# Altium schematic symbol library connectors_socets.schlib: 183 symbols (part 1 of 2)
Pins are listed as number, name and electrical type; pins without a type are passive.

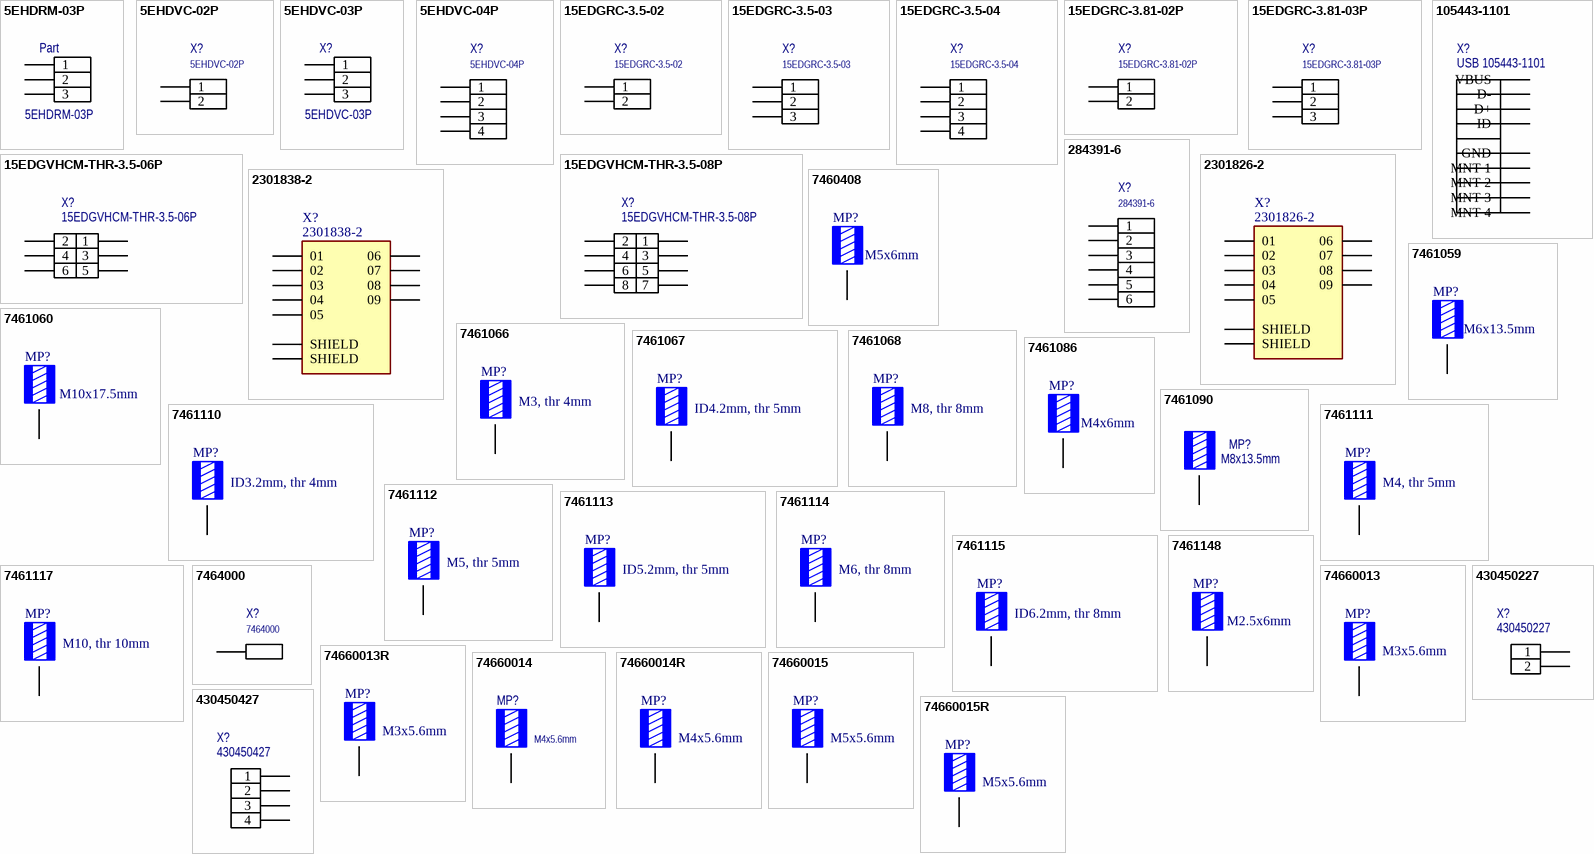
[diagram p0: symbols 5EHDRM-03P to 430450427]

## 5EHDRM-03P
designator Part
Connector 3pin 5.0 mm pitch
footprint 5EHDRM-03P (Connector 3Pin 5.00mm Pitch)
pins: 1, 2, 3

## 5EHDVC-02P
designator X?
Connector 2Pin 3.5; Part: 5EHDVC-02P
footprint 5EHDVC-02P (5mm 2 pins)
pins: 1, 2

## 5EHDVC-03P
designator X?
Connector 3pin 5.0 mm; Part: 5EHDVC-03P
footprint 5EHDVC-03P (5mm 3 pins)
pins: 1, 2, 3

## 5EHDVC-04P
designator X?
Connector 4Pin 3.5; Part: 5EHDVC-04P
footprint 5EHDVC-04P (5mm 4 pins)
pins: 1, 2, 3, 4

## 15EDGRC-3.5-02
designator X?
Connector 2Pin 3.5 pitch
footprint 15EDGRC-3.5-02 (Connector 3.5mm pitch)
footprint 2SMD_PAD
pins: 1, 2

## 15EDGRC-3.5-03
designator X?
Connector 3Pin 3.5 pitch
footprint 15EDGRC-3.5-03 (Connector 3.5mm pitch)
pins: 1, 2, 3

## 15EDGRC-3.5-04
designator X?
Connector 4Pin 3.5 pitch
footprint 15EDGRC-3.5-04 (Connector 3.5mm pitch)
pins: 1, 2, 3, 4

## 15EDGRC-3.81-02P
designator X?
Connector 2Pin 3.81 pitch; Part: 15EDGRC-3.81-02P
footprint 15EDGRC-3.81-02P
pins: 1, 2

## 15EDGRC-3.81-03P
designator X?
Connector 3Pin 3.81 pitch; Part: 15EDGRC-3.81-03P
footprint 15EDGRC-3.81-03P
pins: 1, 2, 3

## 15EDGVHCM-THR-3.5-06P
designator X?
Alternative Part: JL15EDGRHC-35005B02 / 15EDGRHC-THR-3.5-10P; Part: 15EDGVHCM-THR-3.5-06P; JLCPCB Part: C2908411
footprint 15EDGVHCM-THR-3.5-06P (Connector LR)
pins: 1, 2, 3, 4, 5, 6

## 15EDGVHCM-THR-3.5-08P
designator X?
Alternative Part: JL15EDGRHC-35005B02 / 15EDGRHC-THR-3.5-10P; Part: 15EDGVHCM-THR-3.5-08P; JLCPCB Part: C2908411
footprint 15EDGVHCM-THR-3.5-08P (Connector LR)
pins: 1, 2, 3, 4, 5, 6, 7, 8

## 105443-1101
designator X?, comment USB 105443-1101
USBB_micro
footprint USB micro BMolex_105443-1101 (105443-1101)
pins: 1 VBUS, 2 D-, 3 D+, 4 ID, 5 GND, 6 MNT 1, 7 MNT 2, 8 MNT 3, 9 MNT 4

## 284391-6
designator X?
Connector 6Pin 3.5 pitch
footprint 284391-6 (Connector 3.5mm pitch)
pins: 1, 2, 3, 4, 5, 6

## 2301826-2
designator X?
( DB9 ) 9 Position D-Sub Plug, Male Pins Connector, COM, TE Connectivity; Part: 2301826-2
footprint 2301826-2
pins: 01, 02, 03, 04, 05, 06, 07, 08, 09, S1 SHIELD, S2 SHIELD

## 2301838-2
designator X?
( DB9 ) 9 Position D-Sub Plug, Female Pins Connector, COM, TE Connectivity; Part: 2301838-2
footprint 2301838-2
pins: 01, 02, 03, 04, 05, 06, 07, 08, 09, S1 SHIELD, S2 SHIELD

## 7460408
designator MP?, comment M5x6mm
WP-BUCF Press-Fit with Internal thread, 9x9mm, 12 pins, M5x6mm, 175A; Part: 7460408; Pin Number: 12; Thread Length: 6mm; Thread: M5; Surface: Tin; ComponentLink1Description: Manufacturer; ComponentLink1URL: http://www.we-online.de; ComponentLink2Description: Datasheet; ComponentLink2URL: https://katalog.we-online.com/em/datasheet/7460408.pdf; Operating Temperature: -55 to +150degC; Height: 6mm; Material: Brass; Packaging: Bulk; Mounting Technology: Press-Fit; Rated Current: 175A; Publisher: Wurth Elektronik; Published Date: September 2019; Size: 9x9mm
footprint 7460408_for HAL
footprint 7460408_for chemical surfaces
pins: 1

## 7461059
designator MP?, comment M6x13.5mm
WP-BUCF Press-Fit with Internal thread, 13x13mm, 16 pins, M6x13.5mm, 240A; Part: 7461059; Pin Number: 16; Thread Length: 13.5mm; Thread: M6; Surface: Tin; ComponentLink1Description: Manufacturer; ComponentLink1URL: http://www.we-online.de; ComponentLink2Description: Datasheet; ComponentLink2URL: https://katalog.we-online.com/em/datasheet/7461059.pdf; Operating Temperature: -55 to +150degC; Height: 13.5mm; Material: Brass; Packaging: Bulk; Mounting Technology: Press-Fit; Rated Current: 240A; Publisher: Wurth Elektronik; Published Date: September 2019; Size: 13x13mm
footprint 7461059_for HAL
footprint 7461059_for chemical surfaces
pins: 1

## 7461060
designator MP?, comment M10x17.5mm
WP-BUCF Press-Fit with Internal thread, 16x16mm, 20 pins, M10x17.5mm, 350A; Part: 7461060; Pin Number: 20; Thread Length: 17.5mm; Thread: M10; Surface: Tin; ComponentLink1Description: Manufacturer; ComponentLink1URL: http://www.we-online.de; ComponentLink2Description: Datasheet; ComponentLink2URL: https://katalog.we-online.com/em/datasheet/7461060.pdf; Operating Temperature: -55 to +150degC; Height: 17.5mm; Material: Brass; Packaging: Bulk; Mounting Technology: Press-Fit; Rated Current: 350A; Publisher: Wurth Elektronik; Published Date: September 2019; Size: 16x16mm
footprint 7461060_for HAL
footprint 7461060_for chemical surfaces
pins: 1

## 7461066
designator MP?, comment M3, thr 4mm
WP-RAFU REDCUBE PRESS-FIT right angled, full plain, 7x7mm, height 14mm, M3, thr 4mm, 130A; Manufacturer: Wurth Elektronik; Manufacturer Part Number: 7461066; Pin Number: 9; Surface: Tin; ComponentLink1Description: Manufacturer; ComponentLink1URL: http://www.we-online.de; ComponentLink2Description: Datasheet; ComponentLink2URL: https://www.we-online.com/catalog/datasheet/7461066.pdf; Mounting Technology: Press-Fit; Packaging: Bulk; Operating Temperature: -55 to +150degC; Material: Brass; Size: 7x7mm; Rated Current: 130A; Published Date: June 2021; Thread / Inner Diameter: M3, thr 4mm; Height: 14mm
footprint 7461066_HAL
footprint 7461066_chemical surface
pins: 1

## 7461067
designator MP?, comment ID4.2mm, thr 5mm
WP-RAFU REDCUBE PRESS-FIT right angled, full plain, 9x9mm, height 14mm, ID4.2mm, thr 5mm, 180A; Manufacturer: Wurth Elektronik; Manufacturer Part Number: 7461067; Pin Number: 16; Surface: Tin; ComponentLink1Description: Manufacturer; ComponentLink1URL: http://www.we-online.de; ComponentLink2Description: Datasheet; ComponentLink2URL: https://www.we-online.com/catalog/datasheet/7461067.pdf; Mounting Technology: Press-Fit; Packaging: Bulk; Operating Temperature: -55 to +150degC; Material: Brass; Size: 9x9mm; Rated Current: 180A; Published Date: June 2021; Thread / Inner Diameter: ID4.2mm, thr 5mm; Height: 14mm
footprint 7461067_HAL
footprint 7461067_chemical surface
pins: 1

## 7461068
designator MP?, comment M8, thr 8mm
WP-RAFU REDCUBE PRESS-FIT right angled, full plain, 13x13mm, height 20mm, M8, thr 8mm, 250A; Manufacturer: Wurth Elektronik; Manufacturer Part Number: 7461068; Pin Number: 25; Surface: Tin; ComponentLink1Description: Manufacturer; ComponentLink1URL: http://www.we-online.de; ComponentLink2Description: Datasheet; ComponentLink2URL: https://www.we-online.com/catalog/datasheet/7461068.pdf; Mounting Technology: Press-Fit; Packaging: Bulk; Operating Temperature: -55 to +150degC; Material: Brass; Size: 13x13mm; Rated Current: 250A; Published Date: June 2021; Thread / Inner Diameter: M8, thr 8mm; Height: 20mm
footprint 7461068_HAL
footprint 7461068_chemical surface
pins: 1

## 7461086
designator MP?, comment M4x6mm
WP-BUCF Press-Fit with Internal thread, 9x9mm, 12 pins, M4x6mm, 175A; Part: 7461086; Pin Number: 12; Thread Length: 6mm; Thread: M4; Surface: Tin; ComponentLink1Description: Manufacturer; ComponentLink1URL: http://www.we-online.de; ComponentLink2Description: Datasheet; ComponentLink2URL: https://katalog.we-online.com/em/datasheet/7461086.pdf; Operating Temperature: -55 to +150degC; Height: 6mm; Material: Brass; Packaging: Bulk; Mounting Technology: Press-Fit; Rated Current: 175A; Publisher: Wurth Elektronik; Published Date: September 2019; Size: 9x9mm
footprint 7461086_for HAL
footprint 7461086_for chemical surfaces
pins: 1

## 7461090
designator MP?, comment M8x13.5mm
WP-BUCF Press-Fit with Internal thread, 16x16mm, 20 pins, M8x13.5mm, 350A; Part: 7461090; Pin Number: 20; Thread Length: 13.5mm; Thread: M8; Surface: Tin; ComponentLink1Description: Manufacturer; ComponentLink1URL: http://www.we-online.de; ComponentLink2Description: Datasheet; ComponentLink2URL: https://katalog.we-online.com/em/datasheet/7461090.pdf; Operating Temperature: -55 to +150degC; Height: 13.5mm; Material: Brass; Packaging: Bulk; Mounting Technology: Press-Fit; Rated Current: 350A; Publisher: Wurth Elektronik; Published Date: September 2019; Size: 16x16mm
footprint 7461090_for HAL
footprint 7461090_for chemical surfaces
pins: 1

## 7461110
designator MP?, comment ID3.2mm, thr 4mm
WP-RAFU REDCUBE PRESS-FIT right angled, full plain, 7x7mm, height 14mm, ID3.2mm, thr 4mm, 130A; Manufacturer: Wurth Elektronik; Manufacturer Part Number: 7461110; Pin Number: 9; Surface: Tin; ComponentLink1Description: Manufacturer; ComponentLink1URL: http://www.we-online.de; ComponentLink2Description: Datasheet; ComponentLink2URL: https://www.we-online.com/catalog/datasheet/7461110.pdf; Mounting Technology: Press-Fit; Packaging: Bulk; Operating Temperature: -55 to +150degC; Material: Brass; Size: 7x7mm; Rated Current: 130A; Published Date: June 2021; Thread / Inner Diameter: ID3.2mm, thr 4mm; Height: 14mm
footprint 7461110_HAL
footprint 7461110_chemical surface
pins: 1

## 7461111
designator MP?, comment M4, thr 5mm
WP-RAFU REDCUBE PRESS-FIT right angled, full plain, 9x9mm, height 14mm, M4, thr 5mm, 180A; Manufacturer: Wurth Elektronik; Manufacturer Part Number: 7461111; Pin Number: 16; Surface: Tin; ComponentLink1Description: Manufacturer; ComponentLink1URL: http://www.we-online.de; ComponentLink2Description: Datasheet; ComponentLink2URL: https://www.we-online.com/catalog/datasheet/7461111.pdf; Mounting Technology: Press-Fit; Packaging: Bulk; Operating Temperature: -55 to +150degC; Material: Brass; Size: 9x9mm; Rated Current: 180A; Published Date: June 2021; Thread / Inner Diameter: M4, thr 5mm; Height: 14mm
footprint 7461111_HAL
footprint 7461111_chemical surface
pins: 1

## 7461112
designator MP?, comment M5, thr 5mm
WP-RAFU REDCUBE PRESS-FIT right angled, full plain, 9x9mm, height 14mm, M5, thr 5mm, 180A; Manufacturer: Wurth Elektronik; Manufacturer Part Number: 7461112; Pin Number: 16; Surface: Tin; ComponentLink1Description: Manufacturer; ComponentLink1URL: http://www.we-online.de; ComponentLink2Description: Datasheet; ComponentLink2URL: https://www.we-online.com/catalog/datasheet/7461112.pdf; Mounting Technology: Press-Fit; Packaging: Bulk; Operating Temperature: -55 to +150degC; Material: Brass; Size: 9x9mm; Rated Current: 180A; Published Date: June 2021; Thread / Inner Diameter: M5, thr 5mm; Height: 14mm
footprint 7461112_HAL
footprint 7461112_chemical surface
pins: 1

## 7461113
designator MP?, comment ID5.2mm, thr 5mm
WP-RAFU REDCUBE PRESS-FIT right angled, full plain, 9x9mm, height 14mm, ID5.2mm, thr 5mm, 180A; Manufacturer: Wurth Elektronik; Manufacturer Part Number: 7461113; Pin Number: 16; Surface: Tin; ComponentLink1Description: Manufacturer; ComponentLink1URL: http://www.we-online.de; ComponentLink2Description: Datasheet; ComponentLink2URL: https://www.we-online.com/catalog/datasheet/7461113.pdf; Mounting Technology: Press-Fit; Packaging: Bulk; Operating Temperature: -55 to +150degC; Material: Brass; Size: 9x9mm; Rated Current: 180A; Published Date: June 2021; Thread / Inner Diameter: ID5.2mm, thr 5mm; Height: 14mm
footprint 7461113_HAL
footprint 7461113_chemical surface
pins: 1

## 7461114
designator MP?, comment M6, thr 8mm
WP-RAFU REDCUBE PRESS-FIT right angled, full plain, 13x13mm, height 20mm, M6, thr 8mm, 250A; Manufacturer: Wurth Elektronik; Manufacturer Part Number: 7461114; Pin Number: 25; Surface: Tin; ComponentLink1Description: Manufacturer; ComponentLink1URL: http://www.we-online.de; ComponentLink2Description: Datasheet; ComponentLink2URL: https://www.we-online.com/catalog/datasheet/7461114.pdf; Mounting Technology: Press-Fit; Packaging: Bulk; Operating Temperature: -55 to +150degC; Material: Brass; Size: 13x13mm; Rated Current: 250A; Published Date: June 2021; Thread / Inner Diameter: M6, thr 8mm; Height: 20mm
footprint 7461114_HAL
footprint 7461114_chemical surface
pins: 1

## 7461115
designator MP?, comment ID6.2mm, thr 8mm
WP-RAFU REDCUBE PRESS-FIT right angled, full plain, 13x13mm, height 20mm, ID6.2mm, thr 8mm, 250A; Manufacturer: Wurth Elektronik; Manufacturer Part Number: 7461115; Pin Number: 25; Surface: Tin; ComponentLink1Description: Manufacturer; ComponentLink1URL: http://www.we-online.de; ComponentLink2Description: Datasheet; ComponentLink2URL: https://www.we-online.com/catalog/datasheet/7461115.pdf; Mounting Technology: Press-Fit; Packaging: Bulk; Operating Temperature: -55 to +150degC; Material: Brass; Size: 13x13mm; Rated Current: 250A; Published Date: June 2021; Thread / Inner Diameter: ID6.2mm, thr 8mm; Height: 20mm
footprint 7461115_HAL
footprint 7461115_chemical surface
pins: 1

## 7461117
designator MP?, comment M10, thr 10mm
WP-RAFU REDCUBE PRESS-FIT right angled, full plain, 16x16mm, height 25mm, M10, thr 10mm, 350A; Manufacturer: Wurth Elektronik; Manufacturer Part Number: 7461117; Pin Number: 36; Surface: Tin; ComponentLink1Description: Manufacturer; ComponentLink1URL: http://www.we-online.de; ComponentLink2Description: Datasheet; ComponentLink2URL: https://www.we-online.com/catalog/datasheet/7461117.pdf; Mounting Technology: Press-Fit; Packaging: Bulk; Operating Temperature: -55 to +150degC; Material: Brass; Size: 16x16mm; Rated Current: 350A; Published Date: June 2021; Thread / Inner Diameter: M10, thr 10mm; Height: 25mm
footprint 7461117_HAL
footprint 7461117_chemical surface
pins: 1

## 7461148
designator MP?, comment M2.5x6mm
WP-BUCF Press-Fit with Internal thread, 7x7mm, 8 pins, M2.5x6mm, 130A; Part: 7461148; Pin Number: 8; Thread Length: 6mm; Thread: M2.5; Surface: Tin; ComponentLink1Description: Manufacturer; ComponentLink1URL: http://www.we-online.de; ComponentLink2Description: Datasheet; ComponentLink2URL: https://katalog.we-online.com/em/datasheet/7461148.pdf; Operating Temperature: -55 to +150degC; Height: 6mm; Material: Brass; Packaging: Bulk; Mounting Technology: Press-Fit; Rated Current: 130A; Publisher: Wurth Elektronik; Published Date: September 2019; Size: 7x7mm
footprint 7461148_for HAL
footprint 7461148_for chemical surfaces
pins: 1

## 7464000
designator X?
Connector 1Pin
footprint 7464000
pins: 1

## 74660013
designator MP?, comment M3x5.6mm
WP-SMRT REDCUBE SMT Reverse with internal thread, OD10mm, M3x5.6mm, 85A; Part: 74660013; Outer Diameter: 10mm; Surface: Tin; Inner Thread: M3; ComponentLink1Description: Manufacturer; ComponentLink1URL: http://www.we-online.de; ComponentLink2Description: Datasheet; ComponentLink2URL: https://katalog.we-online.com/em/datasheet/74660013.pdf; Mounting Technology: SMT; Height: 5.6mm; Inner Diameter: -; Operating Temperature: -55 to +150degC; Material: Brass; Publisher: Wurth Elektronik; Published Date: November 2019; Packaging: Bulk; Size: M3x5.6mm; Rated Current: 85A
footprint 74660013
pins: 1

## 74660013R
designator MP?, comment M3x5.6mm
WP-SMRT REDCUBE SMT Reverse with internal thread, OD10mm, M3x5.6mm, 85A; Part: 74660013R; Outer Diameter: 10mm; Surface: Tin; Inner Thread: M3; ComponentLink1Description: Manufacturer; ComponentLink1URL: http://www.we-online.de; ComponentLink2Description: Datasheet; ComponentLink2URL: https://katalog.we-online.com/em/datasheet/74660013R.pdf; Mounting Technology: SMT; Height: 5.6mm; Inner Diameter: -; Operating Temperature: -55 to +150degC; Material: Brass; Publisher: Wurth Elektronik; Published Date: November 2019; Packaging: Tape and Reel; Size: M3x5.6mm; Rated Current: 85A
footprint 74660013
pins: 1

## 74660014
designator MP?, comment M4x5.6mm
WP-SMRT REDCUBE SMT Reverse with internal thread, OD10mm, M4x5.6mm, 85A; Part: 74660014; Outer Diameter: 10mm; Surface: Tin; Inner Thread: M4; ComponentLink1Description: Manufacturer; ComponentLink1URL: http://www.we-online.de; ComponentLink2Description: Datasheet; ComponentLink2URL: https://katalog.we-online.com/em/datasheet/74660014.pdf; Mounting Technology: SMT; Height: 5.6mm; Inner Diameter: -; Operating Temperature: -55 to +150degC; Material: Brass; Publisher: Wurth Elektronik; Published Date: November 2019; Packaging: Bulk; Size: M4x5.6mm; Rated Current: 85A
footprint 74660014 (Bush SMD open)
pins: 1

## 74660014R
designator MP?, comment M4x5.6mm
WP-SMRT REDCUBE SMT Reverse with internal thread, OD10mm, M4x5.6mm, 85A; Part: 74660014R; Outer Diameter: 10mm; Surface: Tin; Inner Thread: M4; ComponentLink1Description: Manufacturer; ComponentLink1URL: http://www.we-online.de; ComponentLink2Description: Datasheet; ComponentLink2URL: https://katalog.we-online.com/em/datasheet/74660014R.pdf; Mounting Technology: SMT; Height: 5.6mm; Inner Diameter: -; Operating Temperature: -55 to +150degC; Material: Brass; Publisher: Wurth Elektronik; Published Date: November 2019; Packaging: Tape and Reel; Size: M4x5.6mm; Rated Current: 85A
footprint 74660014
pins: 1

## 74660015
designator MP?, comment M5x5.6mm
WP-SMRT REDCUBE SMT Reverse with internal thread, OD10mm, M5x5.6mm, 85A; Part: 74660015; Outer Diameter: 10mm; Surface: Tin; Inner Thread: M5; ComponentLink1Description: Manufacturer; ComponentLink1URL: http://www.we-online.de; ComponentLink2Description: Datasheet; ComponentLink2URL: https://katalog.we-online.com/em/datasheet/74660015.pdf; Mounting Technology: SMT; Height: 5.6mm; Inner Diameter: -; Operating Temperature: -55 to +150degC; Material: Brass; Publisher: Wurth Elektronik; Published Date: November 2019; Packaging: Bulk; Size: M5x5.6mm; Rated Current: 85A
footprint 74660015
pins: 1

## 74660015R
designator MP?, comment M5x5.6mm
WP-SMRT REDCUBE SMT Reverse with internal thread, OD10mm, M5x5.6mm, 85A; Part: 74660015R; Outer Diameter: 10mm; Surface: Tin; Inner Thread: M5; ComponentLink1Description: Manufacturer; ComponentLink1URL: http://www.we-online.de; ComponentLink2Description: Datasheet; ComponentLink2URL: https://katalog.we-online.com/em/datasheet/74660015R.pdf; Mounting Technology: SMT; Height: 5.6mm; Inner Diameter: -; Operating Temperature: -55 to +150degC; Material: Brass; Publisher: Wurth Elektronik; Published Date: November 2019; Packaging: Tape and Reel; Size: M5x5.6mm; Rated Current: 85A
footprint 74660015
pins: 1

## 430450227
designator X?
Molex MicroFit
footprint 430450227
pins: 1, 2

## 430450427
designator X?
Molex MicroFit
footprint 430450427
pins: 1, 2, 3, 4

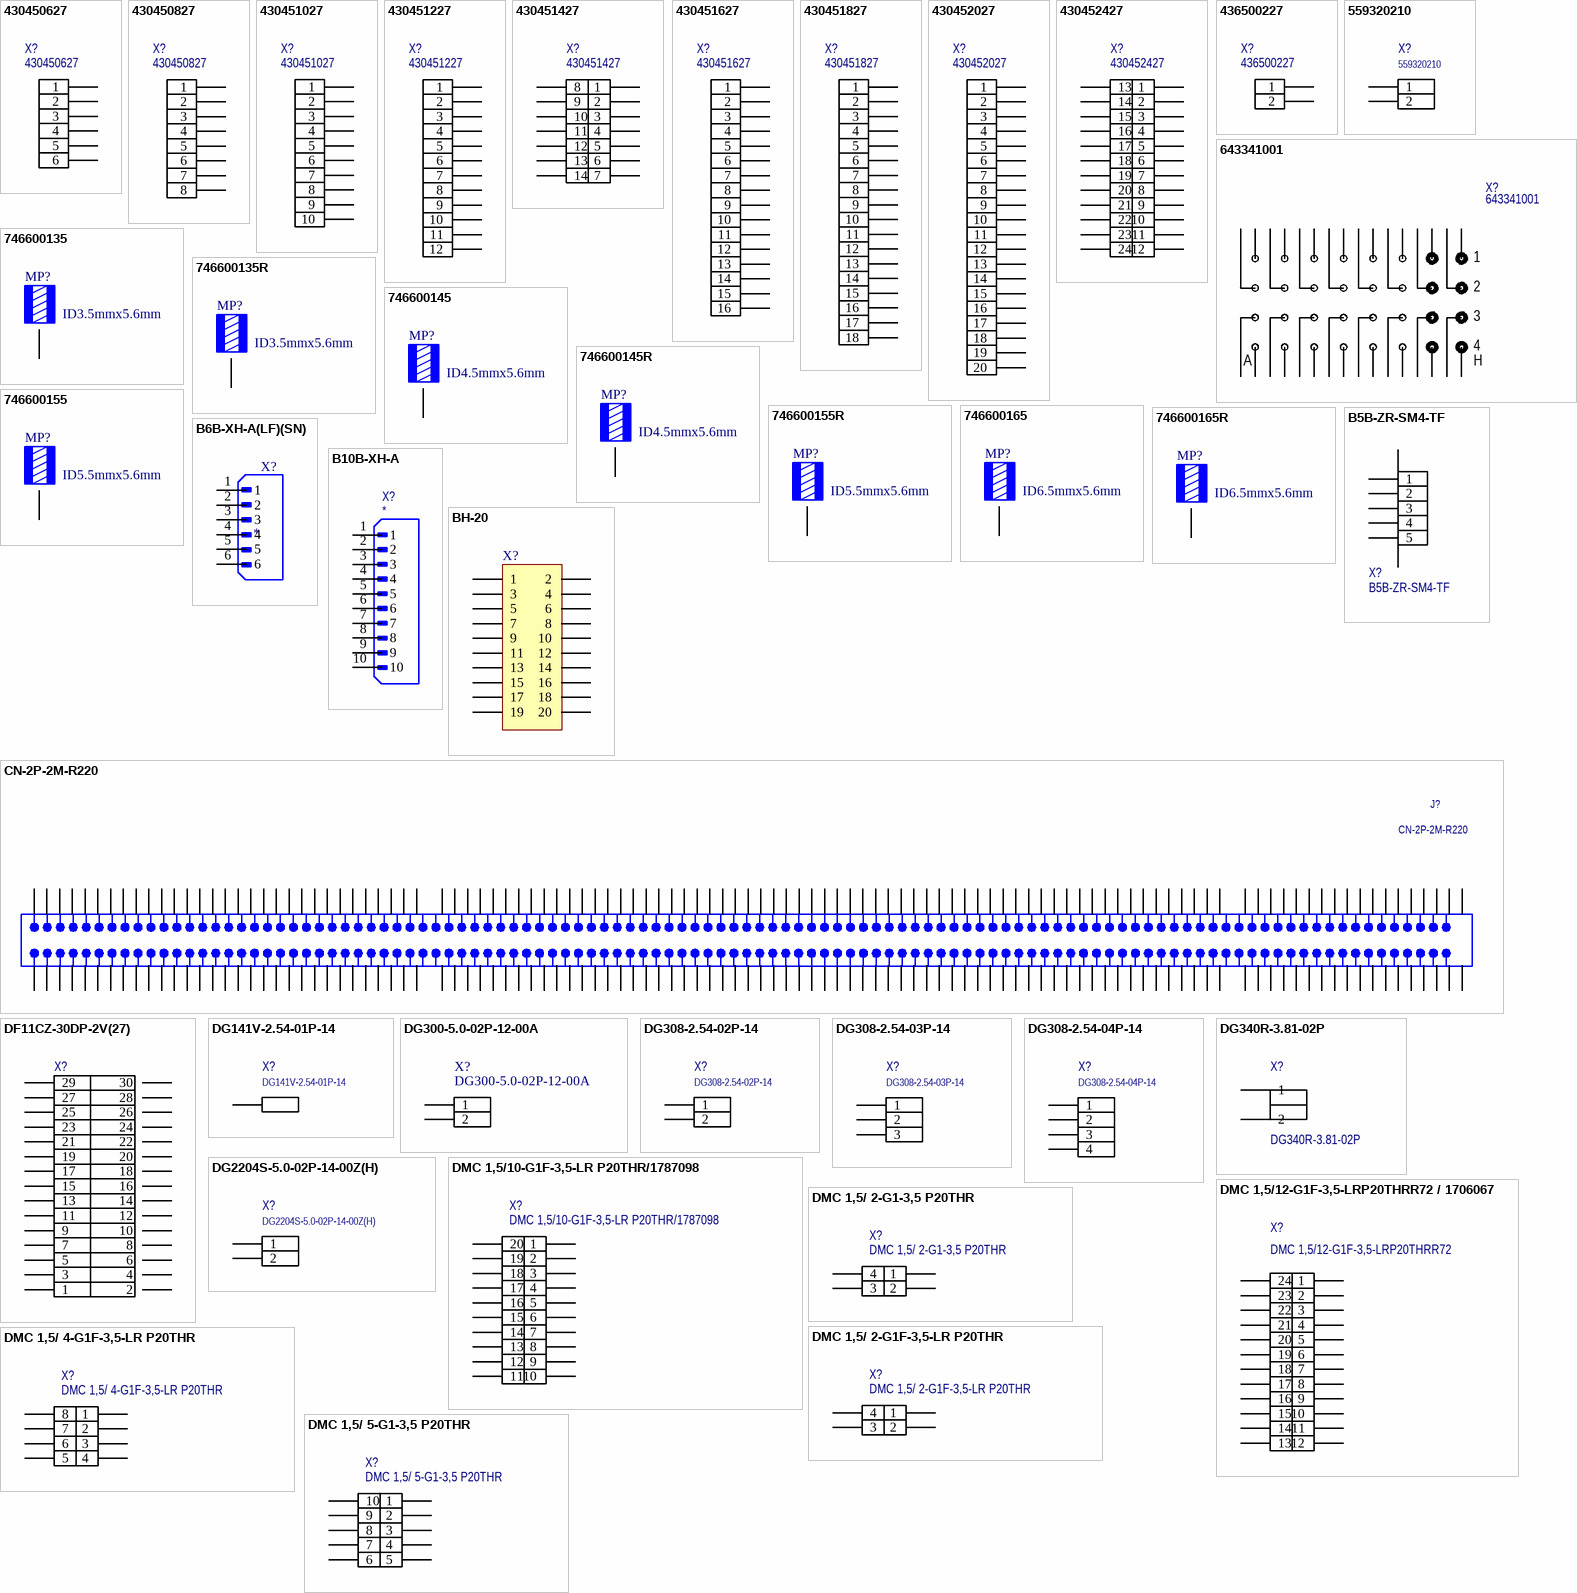
[diagram p1: symbols 430450627 to DMC 1,5/ 5-G1-3,5 P20THR]

## 430450627
designator X?
Molex MicroFit
footprint 430450627
pins: 1, 2, 3, 4, 5, 6

## 430450827
designator X?
Molex MicroFit
footprint 430450827
pins: 1, 2, 3, 4, 5, 6, 7, 8

## 430451027
designator X?
Molex MicroFit
footprint 430451027
pins: 1, 2, 3, 4, 5, 6, 7, 8, 9, 10

## 430451227
designator X?
Molex MicroFit
footprint 430451227
pins: 1, 2, 3, 4, 5, 6, 7, 8, 9, 10, 11, 12

## 430451427
designator X?
Molex MicroFit
footprint 430451427
pins: 1, 2, 3, 4, 5, 6, 7, 8, 9, 10, 11, 12, 13, 14

## 430451627
designator X?
Molex MicroFit
footprint 430451627
pins: 1, 2, 3, 4, 5, 6, 7, 8, 9, 10, 11, 12, 13, 14, 15, 16

## 430451827
designator X?
Molex MicroFit
footprint 430451827
pins: 1, 2, 3, 4, 5, 6, 7, 8, 9, 10, 11, 12, 13, 14, 15, 16, 17, 18

## 430452027
designator X?
Molex MicroFit
footprint 430452027
pins: 1, 2, 3, 4, 5, 6, 7, 8, 9, 10, 11, 12, 13, 14, 15, 16, 17, 18, 19, 20

## 430452427
designator X?
Molex MicroFit
footprint 430452427
pins: 1, 2, 3, 4, 5, 6, 7, 8, 9, 10, 11, 12, 13, 14, 15, 16, 17, 18, 19, 20, 21, 22, 23, 24

## 436500227
designator X?
Molex MicroFit
footprint 436500227
pins: 1, 2

## 559320210
designator X?
Connector 2Pin 2 pitch
footprint 559320210 (2pin molex pcb)
pins: 1, 2

## 643341001
designator X?
molex-cros-wired
footprint 643341001 (Molex connectors)
pins: A1, A2, A3, A4, B1, B2, B3, B4, C1, C2, C3, C4, D1, D2, D3, D4, E1, E2, E3, E4, F1, F2, F3, F4, G1, G2, G3, G4, H1, H2, H3, H4
text: 1; 2; 3; 4; A; H

## 746600135
designator MP?, comment ID3.5mmx5.6mm
WP-SMRT REDCUBE SMT Reverse with internal through-hole, OD10mm, ID3.5mmx5.6mm, 85A; Part: 746600135; Inner Diameter: 3.5mm; Outer Diameter: 10mm; Surface: Tin; ComponentLink1Description: Manufacturer; ComponentLink1URL: http://www.we-online.de; ComponentLink2Description: Datasheet; ComponentLink2URL: https://katalog.we-online.com/em/datasheet/746600135.pdf; Mounting Technology: SMT; Height: 5.6mm; Operating Temperature: -55 to +150degC; Material: Brass; Publisher: Wurth Elektronik; Published Date: November 2019; Packaging: Bulk; Size: ID3.5mmx5.6mm; Rated Current: 85A; Inner Thread: -
footprint 746600135
pins: 1

## 746600135R
designator MP?, comment ID3.5mmx5.6mm
WP-SMRT REDCUBE SMT Reverse with internal through-hole, OD10mm, ID3.5mmx5.6mm, 85A; Part: 746600135R; Inner Diameter: 3.5mm; Outer Diameter: 10mm; Surface: Tin; ComponentLink1Description: Manufacturer; ComponentLink1URL: http://www.we-online.de; ComponentLink2Description: Datasheet; ComponentLink2URL: https://katalog.we-online.com/em/datasheet/746600135R.pdf; Mounting Technology: SMT; Height: 5.6mm; Operating Temperature: -55 to +150degC; Material: Brass; Publisher: Wurth Elektronik; Published Date: November 2019; Packaging: Tape and Reel; Size: ID3.5mmx5.6mm; Rated Current: 85A; Inner Thread: -
footprint 746600135
pins: 1

## 746600145
designator MP?, comment ID4.5mmx5.6mm
WP-SMRT REDCUBE SMT Reverse with internal through-hole, OD10mm, ID4.5mmx5.6mm, 85A; Part: 746600145; Inner Diameter: 4.5mm; Outer Diameter: 10mm; Surface: Tin; ComponentLink1Description: Manufacturer; ComponentLink1URL: http://www.we-online.de; ComponentLink2Description: Datasheet; ComponentLink2URL: https://katalog.we-online.com/em/datasheet/746600145.pdf; Mounting Technology: SMT; Height: 5.6mm; Operating Temperature: -55 to +150degC; Material: Brass; Publisher: Wurth Elektronik; Published Date: November 2019; Packaging: Bulk; Size: ID4.5mmx5.6mm; Rated Current: 85A; Inner Thread: -
footprint 746600145
pins: 1

## 746600145R
designator MP?, comment ID4.5mmx5.6mm
WP-SMRT REDCUBE SMT Reverse with internal through-hole, OD10mm, ID4.5mmx5.6mm, 85A; Part: 746600145R; Inner Diameter: 4.5mm; Outer Diameter: 10mm; Surface: Tin; ComponentLink1Description: Manufacturer; ComponentLink1URL: http://www.we-online.de; ComponentLink2Description: Datasheet; ComponentLink2URL: https://katalog.we-online.com/em/datasheet/746600145R.pdf; Mounting Technology: SMT; Height: 5.6mm; Operating Temperature: -55 to +150degC; Material: Brass; Publisher: Wurth Elektronik; Published Date: November 2019; Packaging: Tape and Reel; Size: ID4.5mmx5.6mm; Rated Current: 85A; Inner Thread: -
footprint 746600145
pins: 1

## 746600155
designator MP?, comment ID5.5mmx5.6mm
WP-SMRT REDCUBE SMT Reverse with internal through-hole, OD10mm, ID5.5mmx5.6mm, 85A; Part: 746600155; Inner Diameter: 5.5mm; Outer Diameter: 10mm; Surface: Tin; ComponentLink1Description: Manufacturer; ComponentLink1URL: http://www.we-online.de; ComponentLink2Description: Datasheet; ComponentLink2URL: https://katalog.we-online.com/em/datasheet/746600155.pdf; Mounting Technology: SMT; Height: 5.6mm; Operating Temperature: -55 to +150degC; Material: Brass; Publisher: Wurth Elektronik; Published Date: November 2019; Packaging: Bulk; Size: ID5.5mmx5.6mm; Rated Current: 85A; Inner Thread: -
footprint 746600155
pins: 1

## 746600155R
designator MP?, comment ID5.5mmx5.6mm
WP-SMRT REDCUBE SMT Reverse with internal through-hole, OD10mm, ID5.5mmx5.6mm, 85A; Part: 746600155R; Inner Diameter: 5.5mm; Outer Diameter: 10mm; Surface: Tin; ComponentLink1Description: Manufacturer; ComponentLink1URL: http://www.we-online.de; ComponentLink2Description: Datasheet; ComponentLink2URL: https://katalog.we-online.com/em/datasheet/746600155R.pdf; Mounting Technology: SMT; Height: 5.6mm; Operating Temperature: -55 to +150degC; Material: Brass; Publisher: Wurth Elektronik; Published Date: November 2019; Packaging: Tape and Reel; Size: ID5.5mmx5.6mm; Rated Current: 85A; Inner Thread: -
footprint 746600155
pins: 1

## 746600165
designator MP?, comment ID6.5mmx5.6mm
WP-SMRT REDCUBE SMT Reverse with internal through-hole, OD12mm, ID6.5mmx5.6mm, 85A; Part: 746600165; Inner Diameter: 6.5mm; Outer Diameter: 12mm; Surface: Tin; ComponentLink1Description: Manufacturer; ComponentLink1URL: http://www.we-online.de; ComponentLink2Description: Datasheet; ComponentLink2URL: https://katalog.we-online.com/em/datasheet/746600165.pdf; Mounting Technology: SMT; Height: 5.6mm; Operating Temperature: -55 to +150degC; Material: Brass; Publisher: Wurth Elektronik; Published Date: November 2019; Packaging: Bulk; Size: ID6.5mmx5.6mm; Rated Current: 85A; Inner Thread: -
footprint 746600165
pins: 1

## 746600165R
designator MP?, comment ID6.5mmx5.6mm
WP-SMRT REDCUBE SMT Reverse with internal through-hole, OD12mm, ID6.5mmx5.6mm, 85A; Part: 746600165R; Inner Diameter: 6.5mm; Outer Diameter: 12mm; Surface: Tin; ComponentLink1Description: Manufacturer; ComponentLink1URL: http://www.we-online.de; ComponentLink2Description: Datasheet; ComponentLink2URL: https://katalog.we-online.com/em/datasheet/746600165R.pdf; Mounting Technology: SMT; Height: 5.6mm; Operating Temperature: -55 to +150degC; Material: Brass; Publisher: Wurth Elektronik; Published Date: November 2019; Packaging: Tape and Reel; Size: ID6.5mmx5.6mm; Rated Current: 85A; Inner Thread: -
footprint 746600165
pins: 1

## B5B-ZR-SM4-TF
designator X?
Connector
footprint B5B-ZR-SM4-TF (Connector)
pins: 1, 2, 3, 4, 5, 6, 7

## B6B-XH-A(LF)(SN)
designator X?
Connector Header Through Hole 6 position 0.098 (2.50mm); Part: B6B-XH-A(LF)(SN); MF: JST Sales; SnapEDA_Link: https://www.snapeda.com/parts/B6B-XH-A(LF)(SN)/JST+Sales+America+Inc./view-part/?ref=snap; Package: None; Value: *; Check_prices: https://www.snapeda.com/parts/B6B-XH-A(LF)(SN)/JST+Sales+America+Inc./view-part/?ref=eda
footprint JST_B6B-XH-A(LF)(SN)
pins: 1, 2, 3, 4, 5, 6

## B10B-XH-A
designator X?
Part: B10B-XH-A; MF: {'manufacturer': u'JST Sales America Inc.'}; Package: None; Price: None; Value: *; Availability: Unavailable
footprint JST_B10B-XH-A
pins: 1, 2, 3, 4, 5, 6, 7, 8, 9, 10

## BH-20
designator X?, comment IDC-20MS(BH-20)  (value not drawn)
Header, 10-Pin, Dual row; LatestRevisionDate: 17-Jul-2002; LatestRevisionNote: Re-released for DXP Platform.; Publisher: Altium Limited
footprint BH-20 (Connector; Header; 10x2 Position)
pins: 1, 2, 3, 4, 5, 6, 7, 8, 9, 10, 11, 12, 13, 14, 15, 16, 17, 18, 19, 20

## CN-2P-2M-R220
designator J?
Board-to-Board Connector, SMT, Vertical, Pitch 0.5mm, Male
footprint TECO-3-6318491-6-220_V (CONN, 220-Leads, Body 61.8x6.2mm, Pitch 0.5mm)
pins: A1, A2, A3, A4, A5, A6, A7, A8, A9, A10, A11, A12, A13, A14, A15, A16, A17, A18, A19, A20, A21, A22, A23, A24, A25, A26, A27, A28, A29, A30, A31, A32, A33, A34, A35, A36, A37, A38, A39, A40, A41, A42, A43, A44, A45, A46, A47, A48, A49, A50, A51, A52, A53, A54, A55, A56, A57, A58, A59, A60, A61, A62, A63, A64, A65, A66, A67, A68, A69, A70, A71, A72, A73, A74, A75, A76, A77, A78, A79, A80, A81, A82, A83, A84, A85, A86, A87, A88, A89, A90, A91, A92, A93, A94, A95, A96, A97, A98, A99, A100, A101, A102, A103, A104, A105, A106, A107, A108, A109, A110, B1, B2, B3, B4, B5, B6, B7, B8, B9, B10, B11, B12, B13, B14, B15, B16, B17, B18, B19, B20, B21, B22, B23, B24, B25, B26, B27, B28, B29, B30, B31, B32, B33, B34, B35, B36, B37, B38, B39, B40, B41, B42, B43, B44, B45, B46, B47, B48, B49, B50, B51, B52, B53, B54, B55, B56, B57, B58, B59, B60, B61, B62, B63, B64, B65, B66, B67, B68, B69, B70, B71, B72, B73, B74, B75, B76, B77, B78, B79, B80, B81, B82, B83, B84, B85, B86, B87, B88, B89, B90, B91, B92, B93, B94, B95, B96, B97, B98, B99, B100, B101, B102, B103, B104, B105, B106, B107, B108, B109, B110, MP1, MP2

## DF11CZ-30DP-2V(27)
designator X?  (value not drawn)
Header, 15-Pin, Dual row; LatestRevisionDate: 17-Jul-2002; LatestRevisionNote: Re-released for DXP Platform.; Publisher: Altium Limited
footprint DF11CZ-30DP-2V(27) (SMT Connector; Header; 15x2 Position)
footprint DF11-30DP-2DS (Connector; Header; 15x2 Position)
pins: 1, 2, 3, 4, 5, 6, 7, 8, 9, 10, 11, 12, 13, 14, 15, 16, 17, 18, 19, 20, 21, 22, 23, 24, 25, 26, 27, 28, 29, 30

## DG141V-2.54-01P-14
designator X?
Connector 1Pin
footprint DG141V-2.54-01P-14
pins: 1

## DG300-5.0-02P-12-00A
designator X?
Connector 2 pin, 5mm; Part: DG300-5.0-02P-12-00A
footprint DG300-5.0-02P-12-00A
pins: 1, 2

## DG308-2.54-02P-14
designator X?
Connector 3Pin 2.54 pitch
footprint DG308-2.54-02P-14
pins: 1, 2

## DG308-2.54-03P-14
designator X?
Connector 3Pin 2.54 pitch
footprint DG308-2.54-03P-14 (DG308-2.54-03P-14/308-031-14)
pins: 1, 2, 3

## DG308-2.54-04P-14
designator X?
Connector 4Pin 2.54 pitch
footprint DG308-2.54-04P-14
pins: 1, 2, 3, 4

## DG340R-3.81-02P
designator X?
Connectors; Type: DG340R-3.81-02P
footprint 340-021-12
pins: 1, 2

## DG2204S-5.0-02P-14-00Z(H)
designator X?
Connector 2 pin 5 mm Pitch; Part: DG2204S-5.0-02P-14-00Z(H); JLCPCBPart: C34373629
footprint DG2204S-5.0-02P-14-00Z(H) (2 pin 5 mm Pitch)
pins: 1, 2

## DMC 1,5/10-G1F-3,5-LR P20THR/1787098
designator X?
footprint DMC 1,5/10-G1F-3,5-LR P20THR - 1787098 (Connector LR)
pins: 1, 2, 3, 4, 5, 6, 7, 8, 9, 10, 11, 12, 13, 14, 15, 16, 17, 18, 19, 20

## DMC 1,5/12-G1F-3,5-LRP20THRR72 / 1706067
designator X?, comment DMC 1,5/12-G1F-3,5-LRP20THRR72
DMC 1,5/12-G1F-3,5-LRP20THRR72 / 1706067
footprint DMC 1,5/12-G1F-3,5-LRP20THRR72 (Connector LR)
pins: 1, 2, 3, 4, 5, 6, 7, 8, 9, 10, 11, 12, 13, 14, 15, 16, 17, 18, 19, 20, 21, 22, 23, 24

## DMC 1,5/ 2-G1-3,5 P20THR
designator X?
DMC 1,5/ 2-G1-3,5 P20THR / 1786837; Part: DMC 1,5/ 2-G1-3,5 P20THR/1786837
footprint DMC 1,5/ 2-G1-3,5 P20THR - 1786837 (Connector LR)
pins: 1, 2, 3, 4

## DMC 1,5/ 2-G1F-3,5-LR P20THR
designator X?
Alternative Part: 15EDGRHCM-THR-3.5-04P; Part: 1787014
footprint DMC 1.5/ 2-G1F-3.5-LR P20THR (Connector LR)
pins: 1, 2, 3, 4

## DMC 1,5/ 4-G1F-3,5-LR P20THR
designator X?
Alternative Part: 15EDGRHCM-THR-3.5-08P; Part: 1787030
footprint DMC 1.5/ 4-G1F-3.5-LR P20THR (Connector LR)
pins: 1, 2, 3, 4, 5, 6, 7, 8

## DMC 1,5/ 5-G1-3,5 P20THR
designator X?
DMC 1.5/ 6-G1F-3.5-LR P20THR; Alternative Part: JL15EDGRHC-35005B02 / 15EDGRHC-THR-3.5-10P; Part: 1786866; JLCPCB Part: C2908411
footprint DMC 1,5/ 5-G1-3,5 P20THR (Connector)
pins: 1, 2, 3, 4, 5, 6, 7, 8, 9, 10

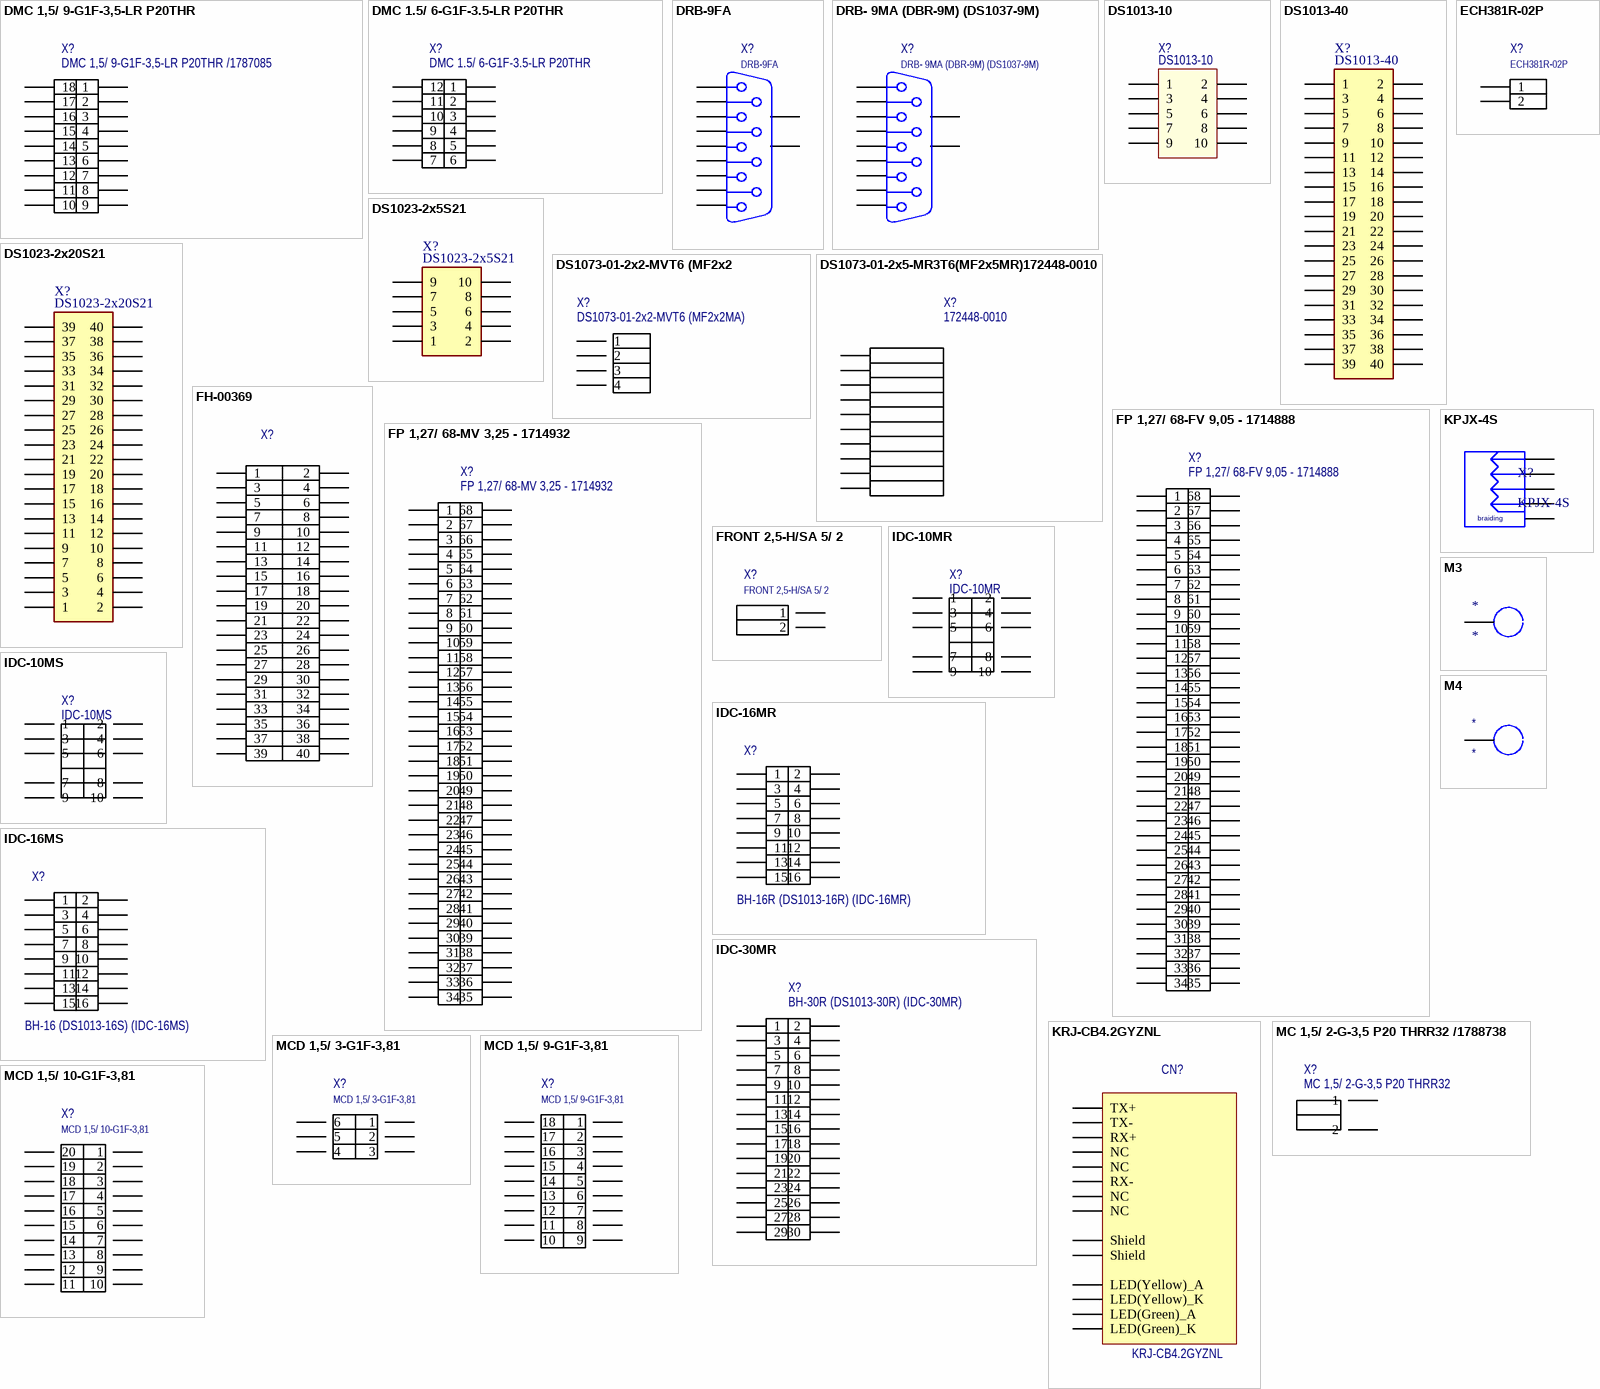
[diagram p2: symbols DMC 1,5/ 9-G1F-3,5-LR P20THR to MCD 1,5/ 10-G1F-3,81]

## DMC 1,5/ 9-G1F-3,5-LR P20THR
designator X?, comment DMC 1,5/ 9-G1F-3,5-LR P20THR /1787085
DMC 1,5/ 9-G1F-3,5-LR P20THR; LatestRevisionDate: 17-Jul-2002; LatestRevisionNote: Re-released for DXP Platform.; Publisher: Altium Limited
footprint DMC 1,5/ 9-G1F-3,5-LR P20THR - 1787085 (Connector LR)
pins: 1, 2, 3, 4, 5, 6, 7, 8, 9, 10, 11, 12, 13, 14, 15, 16, 17, 18

## DMC 1.5/ 6-G1F-3.5-LR P20THR
designator X?
LatestRevisionDate: 17-Jul-2002; LatestRevisionNote: Re-released for DXP Platform.; Publisher: Altium Limited
footprint DMC 1.5/ 6-G1F-3.5-LR P20THR 1787056 (Connector LR)
pins: 1, 2, 3, 4, 5, 6, 7, 8, 9, 10, 11, 12

## DRB-9FA
designator X?
Connector
footprint DRB-9FA (D Sub connector 9-pin)
pins: 1, 2, 3, 4, 5, 6, 7, 8, 9, 10 MH1, 11 MH2

## DRB- 9MA (DBR-9M) (DS1037-9M)
designator X?
Connector
footprint DRB- 9MA (DBR-9M) (DS1037-9M) (D Sub connector 9-pin)
pins: 1, 2, 3, 4, 5, 6, 7, 8, 9, 10 MH1, 11 MH2

## DS1013-10
designator X?
Socket; IDC; male; PIN: 10; straight; THT; gold plated; 2.54mm; Part: DS1013-10SSIB1-B-0
footprint DS1013-10-S
pins: 1, 2, 3, 4, 5, 6, 7, 8, 9, 10

## DS1013-40
designator X?
Socket; IDC; male; PIN: 40; straight; THT; gold plated; 2.54mm; Part: DS1013-40SSIB1-B-0
footprint DS1013-40-S
pins: 1, 2, 3, 4, 5, 6, 7, 8, 9, 10, 11, 12, 13, 14, 15, 16, 17, 18, 19, 20, 21, 22, 23, 24, 25, 26, 27, 28, 29, 30, 31, 32, 33, 34, 35, 36, 37, 38, 39, 40

## DS1023-2x5S21
designator X?
Socket; IDC; male; PIN: 10; straight; THT; gold plated; 2.54mm; Part: DS1023-2x5S21
footprint DS1023-2x5S21
pins: 1, 2, 3, 4, 5, 6, 7, 8, 9, 10

## DS1023-2x20S21
designator X?
Socket; IDC; male; PIN: 40; straight; THT; gold plated; 2.54mm; Part: DS1023-2x20S21
footprint DS1023-2x20S21
pins: 1, 2, 3, 4, 5, 6, 7, 8, 9, 10, 11, 12, 13, 14, 15, 16, 17, 18, 19, 20, 21, 22, 23, 24, 25, 26, 27, 28, 29, 30, 31, 32, 33, 34, 35, 36, 37, 38, 39, 40

## DS1073-01-2x2-MVT6 (MF2x2
designator X?, comment DS1073-01-2x2-MVT6 (MF2x2MA)
Connectors
footprint DS1073-01-2x2-MVT6 (MF2x2MA) (Power Connector)
pins: 1, 2, 3, 4

## DS1073-01-2x5-MR3T6(MF2x5MR)172448-0010
designator X?, comment 172448-0010
Power connector
footprint ATX-172448-0010 (DS1073-01-2x5-MR3T6(MF2x5MR)172448-0010)
pins: 1, 2, 3, 4, 5, 6, 7, 8, 9, 10

## ECH381R-02P
designator X?
Connector 2Pin 3.81 pitch
footprint ECH381R-02P (Connector 3.81 pitch)
pins: 1, 2

## FH-00369
designator X?
2.54mm Trought PCB; Part: FH-00369; JLCPCBPart: C2685115
footprint FH-00369 (Connector; 10x2)
pins: 1, 2, 3, 4, 5, 6, 7, 8, 9, 10, 11, 12, 13, 14, 15, 16, 17, 18, 19, 20, 21, 22, 23, 24, 25, 26, 27, 28, 29, 30, 31, 32, 33, 34, 35, 36, 37, 38, 39, 40

## FP 1,27/ 68-FV 9,05 - 1714888
designator X?
footprint FP 1,27/ 68-FV 9,05 - 1714888
pins: 1, 2, 3, 4, 5, 6, 7, 8, 9, 10, 11, 12, 13, 14, 15, 16, 17, 18, 19, 20, 21, 22, 23, 24, 25, 26, 27, 28, 29, 30, 31, 32, 33, 34, 35, 36, 37, 38, 39, 40, 41, 42, 43, 44, 45, 46, 47, 48, 49, 50, 51, 52, 53, 54, 55, 56, 57, 58, 59, 60, 61, 62, 63, 64, 65, 66, 67, 68

## FP 1,27/ 68-MV 3,25 - 1714932
designator X?
footprint FP 1,27/ 68-MV 3,25 - 1714932
pins: 1, 2, 3, 4, 5, 6, 7, 8, 9, 10, 11, 12, 13, 14, 15, 16, 17, 18, 19, 20, 21, 22, 23, 24, 25, 26, 27, 28, 29, 30, 31, 32, 33, 34, 35, 36, 37, 38, 39, 40, 41, 42, 43, 44, 45, 46, 47, 48, 49, 50, 51, 52, 53, 54, 55, 56, 57, 58, 59, 60, 61, 62, 63, 64, 65, 66, 67, 68

## FRONT 2,5-H/SA 5/ 2
designator X?
Connector  2 Pin 5 mm pitch; Part: JL105R-50002G01; Alternative Part: 1868665 / FRONT 2,5-H/SA 5/ 2/  DG105R-5.0-02P-10040000052
pins: 1, 2

## IDC-10MR
designator X?
footprint IDC-10MR (BH-10R) (DS1013-10R) (Connector; Header; 5x2 Position)
pins: 1, 2, 3, 4, 5, 6, 7, 8, 9, 10

## IDC-10MS
designator X?
footprint IDC-10MS (Connector; Header; 5x2 Position)
pins: 1, 2, 3, 4, 5, 6, 7, 8, 9, 10

## IDC-16MR
designator X?, comment BH-16R (DS1013-16R) (IDC-16MR)
footprint IDC-16MR
pins: 1, 2, 3, 4, 5, 6, 7, 8, 9, 10, 11, 12, 13, 14, 15, 16

## IDC-16MS
designator X?, comment BH-16 (DS1013-16S) (IDC-16MS)
footprint IDC-16MS-N (Connector; Header; 8x2 Position)
pins: 1, 2, 3, 4, 5, 6, 7, 8, 9, 10, 11, 12, 13, 14, 15, 16

## IDC-30MR
designator X?, comment BH-30R (DS1013-30R) (IDC-30MR)
footprint IDC-30MR
pins: 1, 2, 3, 4, 5, 6, 7, 8, 9, 10, 11, 12, 13, 14, 15, 16, 17, 18, 19, 20, 21, 22, 23, 24, 25, 26, 27, 28, 29, 30

## KPJX-4S
designator X?
Power connector
footprint KPJX-4S
pins: 1, 2, 3, 4, 5
text: braiding

## KRJ-CB4.2GYZNL
designator CN?
100 Base-TX (Fast Ethernet) SMD RJ45 single port (1x1) with LEDS Integrated Magnetics Connector; Manuf_1: HanRun; Manuf_Part_1: HR961160C; Manuf_2: Pulse Electronics Corporation; Manuf_Part_2: J3011G21DNLT; Manuf_3: K.O.D International Holding; Manuf_Part_3: RMT-119A-12F6-GY-04; Distrib: Sub Co; Order: *
footprint RJ45_KRJ-CB4.2GYZNL (RJ45  connector, right angle)
pins: 1 TX+, 2 TX-, 3 RX+, 4 NC, 5 NC, 6 RX-, 7 NC, 8 NC, 9 LED(Yellow)_K, 10 LED(Yellow)_A, 11 LED(Green)_K, 12 LED(Green)_A, 13 Shield, 14 Shield

## M3
designator *
footprint M3
pins: 1

## M4
designator *
footprint M4
pins: 1

## MC 1,5/ 2-G-3,5 P20 THRR32 /1788738
designator X?, comment MC 1,5/ 2-G-3,5 P20 THRR32
MC 1,5/ 2-G-3,5 P20 THRR32 / 1788738; Part: MC 1,5/ 2-G-3,5 P20 THRR32 - 1788738
footprint MC 1,5/ 2-G-3,5 P20 THRR32
pins: 1, 2

## MCD 1,5/ 3-G1F-3,81
designator X?
Connector  2 x 3Pin 3.81 pitch; Part: KF2EDGRHM-3.81-2*3P; Alternative Part: 1842924 / MCD 1,5/ 3-G1F-3,81
footprint MCD 1,5/ 3-G1F-3,81  / 1842924
pins: 1, 2, 3, 4, 5, 6

## MCD 1,5/ 9-G1F-3,81
designator X?
Connector  2 x 9Pin 3.81 pitch; Part: KF2EDGRHM-3.81-2*9P; Alternative Part: 1842982 / MCD 1,5/ 9-G1F-3,81
footprint MCD 1,5/ 9-G1F-3,81 / 1842982
pins: 1, 2, 3, 4, 5, 6, 7, 8, 9, 10, 11, 12, 13, 14, 15, 16, 17, 18

## MCD 1,5/ 10-G1F-3,81
designator X?
Connector  2 x 10 Pin 3.81 pitch; Part: KF2EDGRHM-3.81-2*10P; Alternative Part: 1842995 / MCD 1,5/10-G1F-3,81
footprint MCD 1,5/10-G1F-3,81 / 1842995
pins: 1, 2, 3, 4, 5, 6, 7, 8, 9, 10, 11, 12, 13, 14, 15, 16, 17, 18, 19, 20

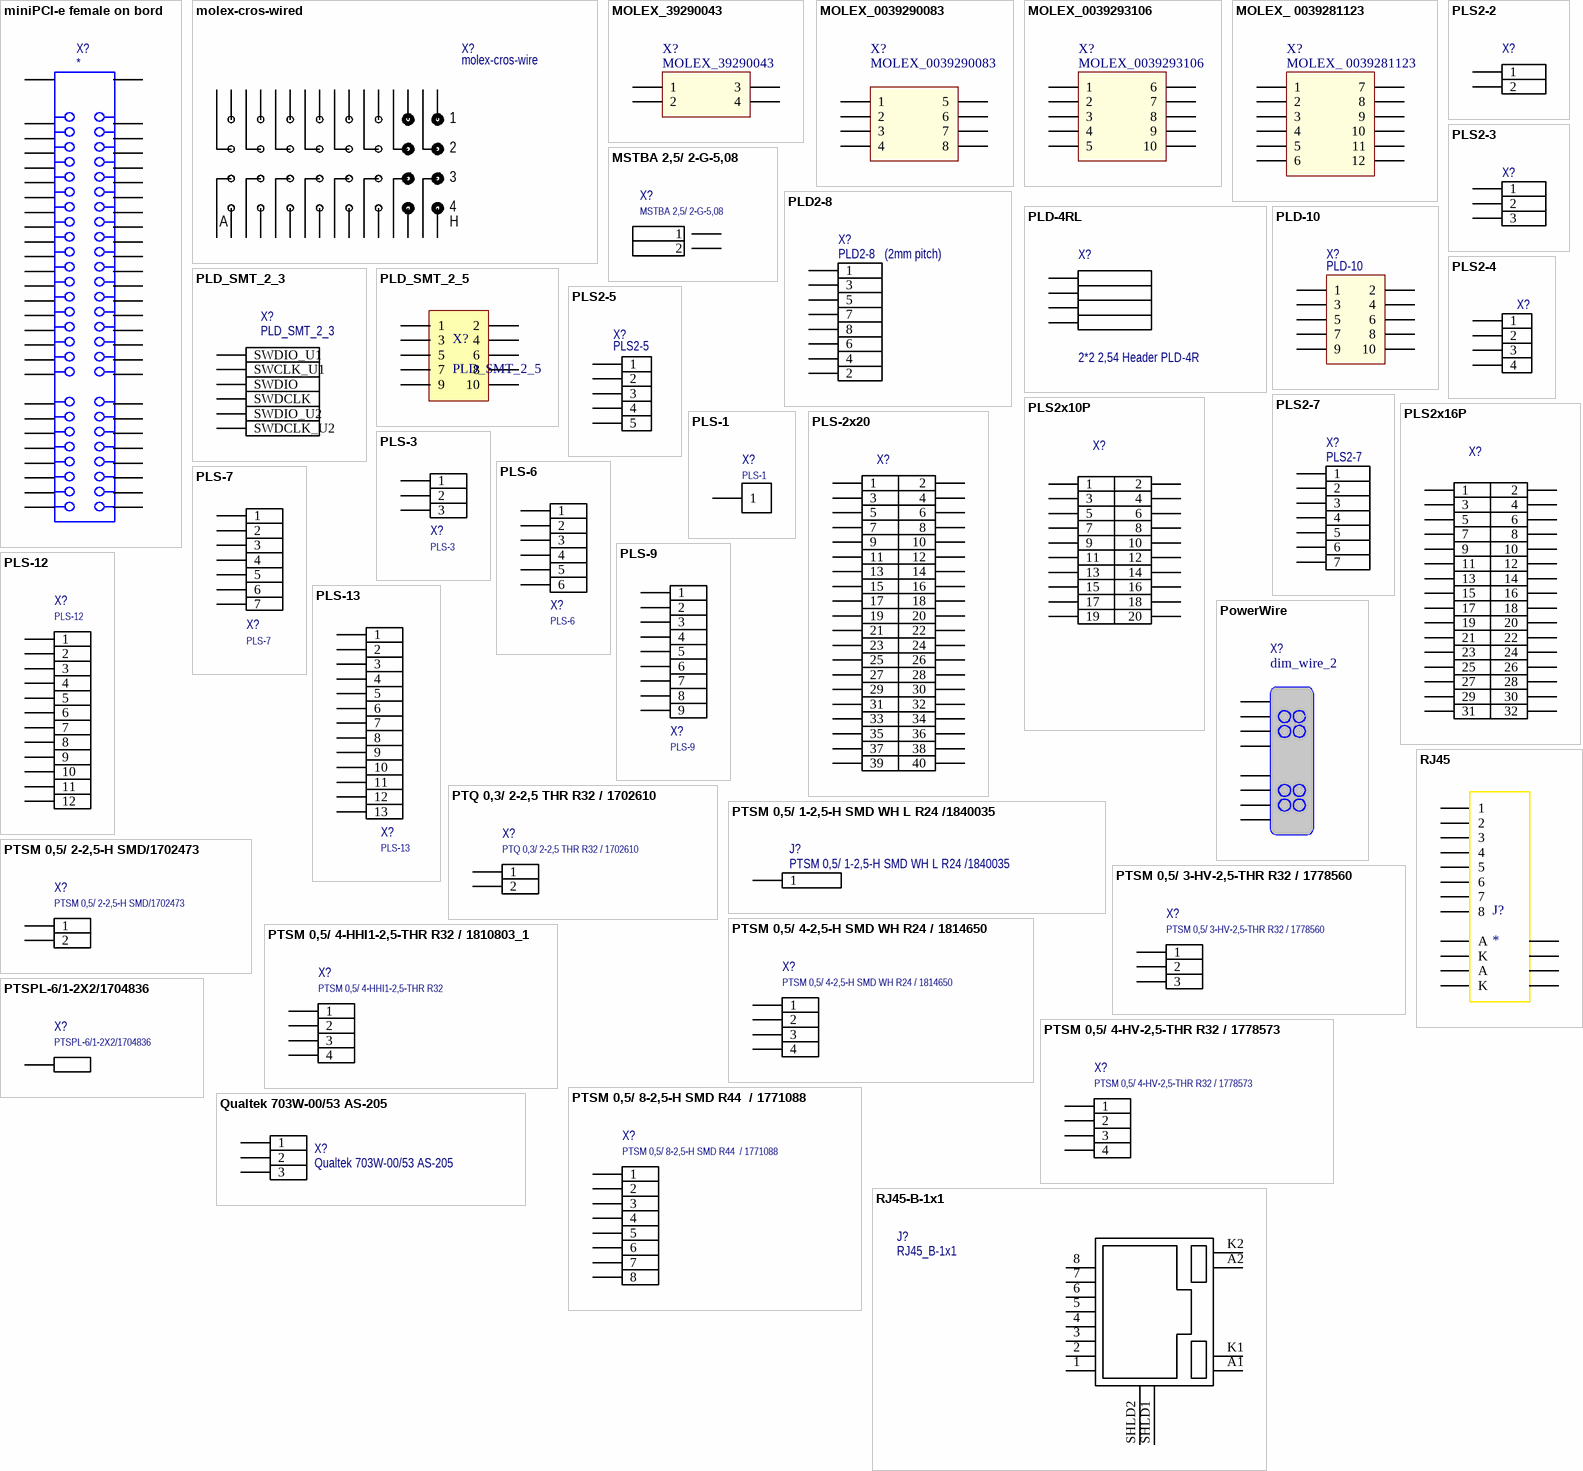
[diagram p3: symbols miniPCI-e female on bord to RJ45-B-1x1]

## miniPCI-e female on bord
designator X?
footprint miniPCIe female on board
pins: 1, 2, 3, 4, 5, 6, 7, 8, 9, 10, 11, 12, 13, 14, 15, 16, 17, 18, 19, 20, 21, 22, 23, 24, 25, 26, 27, 28, 29, 30, 31, 32, 33, 34, 35, 36, 37, 38, 39, 40, 41, 42, 43, 44, 45, 46, 47, 48, 49, 50, 51, 52, MP1 53, MP2 54

## molex-cros-wired
designator X?, comment molex-cros-wire
molex-cros-wired
footprint Molex-cross-wire
pins: A1, A2, A3, A4, B1, B2, B3, B4, C1, C2, C3, C4, D1, D2, D3, D4, E1, E2, E3, E4, F1, F2, F3, F4, G1, G2, G3, G4, H1, H2, H3, H4
text: 1; 2; 3; 4; A; H

## MOLEX_39290043
designator X?
Molex 4.2mm, 2x2pins
footprint MOLEX_39290043
pins: 1, 2, 3, 4

## MOLEX_0039290083
designator X?
Molex 4.2mm, 2x4pins / DS1073-01-2x4-MVT6 (MF2x4MA)
footprint MOLEX_0039290083
pins: 1, 2, 3, 4, 5, 6, 7, 8

## MOLEX_0039293106
designator X?
Molex 4.2mm, 2x5pins / DS1073-01-2x5-MVT6 (MF2x5MA)
footprint MOLEX_0039293106
pins: 1, 2, 3, 4, 5, 6, 7, 8, 9, 10

## MOLEX_ 0039281123
designator X?
Molex 4.2mm, 2x6pins / DS1073-01-2X6MVT6, (MF-2x06M)
footprint MOLEX_ 0039281123
pins: 1, 2, 3, 4, 5, 6, 7, 8, 9, 10, 11, 12

## MSTBA 2,5/ 2-G-5,08
designator X?
Connector  2 Pin 5 mm pitch; Part: WJ2EDGRC-5.08-2P; Alternative Part: 1757242 / MSTBA 2,5/ 2-G-5,08 / 2EDGRC-5.08-02P-10030001535
footprint MSTBA 2,5/ 2-G-5,08 / 1757242
pins: 1, 2

## PLD2-8
designator X?, comment PLD2-8   (2mm pitch)
Header, 4-Pin, Dual row
footprint PLD-8-2 (Connector; Header; 4x2 Position)
footprint PXD-8-2 (Connector; Header; 4x2 Position)
pins: 1, 2, 3, 4, 5, 6, 7, 8

## PLD-4RL
designator X?, comment 2*2 2,54 Header PLD-4R
Header, 4-Pin, Dual row
footprint PLD-4RL2 (Connector; Header; 2x2 Position)
footprint PLD-4-2 (Connector; Header; 2x2 Position)
footprint PLD-4-3D (Connector; Header; 2x2 Position)
footprint PLD-4RL1 (Connector; Header; 2x2 Position)
pins: 1, 2, 3, 4

## PLD-10
designator X?
male; PIN: 10; 2.54mm; Part: *
footprint PLD-10-3D (Connector; Header; 5x2 Position)
footprint PLD-10T (Connector; Header; 5x2 Position)
pins: 1, 2, 3, 4, 5, 6, 7, 8, 9, 10

## PLD_SMT_2_3
designator X?
pins: 1 SWDIO_U1, 2 SWCLK_U1, 3 SWDIO, 4 SWDCLK, 5 SWDIO_U2, 6 SWDCLK_U2

## PLD_SMT_2_5
designator X?
footprint PLD10SMT_2_5
pins: 1, 2, 3, 4, 5, 6, 7, 8, 9, 10

## PLS2-2
designator X?  (value not drawn)
Header, 2-Pin; LatestRevisionDate: 17-Jul-2002; LatestRevisionNote: Re-released for DXP Platform.; Publisher: Altium Limited
footprint PLS-2-3D (Connector; Header; 2 Position)
pins: 1, 2

## PLS2-3
designator X?  (value not drawn)
Header, 3-Pin; LatestRevisionDate: 17-Jul-2002; LatestRevisionNote: Re-released for DXP Platform.; Publisher: Altium Limited
footprint PLS-3-2 (Connector; Header; 1x3 Position)
footprint PLS-3-3D (Connector; Header; 3 Position)
pins: 1, 2, 3

## PLS2-4
designator X?  (value not drawn)
Header, 4-Pin; LatestRevisionDate: 17-Jul-2002; LatestRevisionNote: Re-released for DXP Platform.; Publisher: Altium Limited
footprint PLS-4-2 (Connector; Header; 1x4 Position)
footprint PLS-4-3D (Connector; Header; 4 Position)
footprint PLS-4R (Connector; Header; 4 Position)
footprint PLS-4T (Connector; Header; 4 Position)
pins: 1, 2, 3, 4

## PLS2-5
designator X?
Header, 5-Pin; LatestRevisionDate: 17-Jul-2002; LatestRevisionNote: Re-released for DXP Platform.; Publisher: Altium Limited
footprint PLS-5-2 (Connector; Header; 1x5 Position)
footprint PLS-5-3D (Connector; Header; 5 Position)
footprint PLS-5R (Connector; Header; 5 Position)
footprint PLS-5T (Connector; Header; 4 Position)
pins: 1, 2, 3, 4, 5

## PLS2-7
designator X?
Header, 7-Pin; LatestRevisionDate: 17-Jul-2002; LatestRevisionNote: Re-released for DXP Platform.; Publisher: Altium Limited
footprint PLS-7-2 (Connector; Header; 1x7 Position)
footprint PLS-7-3D (Connector; Header; 7 Position)
pins: 1, 2, 3, 4, 5, 6, 7

## PLS2x10P
designator X?
2.54mь PLS2x10P; Part: DS1021-2x16SF11-B; JLCPCBPart: C7430412
footprint PLD-20-3D (Connector; Header; 10x2 Position)
pins: 1, 2, 3, 4, 5, 6, 7, 8, 9, 10, 11, 12, 13, 14, 15, 16, 17, 18, 19, 20

## PLS2x16P
designator X?
2.54mь PLS2x16P; Part: DS1021-2x16SF11-B; JLCPCBPart: C7430412
footprint PLD-32-3D (Connector; Header; 16x2 Position)
pins: 1, 2, 3, 4, 5, 6, 7, 8, 9, 10, 11, 12, 13, 14, 15, 16, 17, 18, 19, 20, 21, 22, 23, 24, 25, 26, 27, 28, 29, 30, 31, 32

## PLS-1
designator X?
Connector 1 Pin 3.5; Part: 254G3-1Vx01
footprint PLS-1-3D (Connector; Header; 1 Position)
pins: 1

## PLS-2x20
designator X?
2.54mm Matting 7mm; Part: PH-00602; JLCPCBPart: C2685169
footprint PLD-40-3D (Connector; Header; 20x2 Position)
pins: 1, 2, 3, 4, 5, 6, 7, 8, 9, 10, 11, 12, 13, 14, 15, 16, 17, 18, 19, 20, 21, 22, 23, 24, 25, 26, 27, 28, 29, 30, 31, 32, 33, 34, 35, 36, 37, 38, 39, 40

## PLS-3
designator X?
Header, 3-Pin; LatestRevisionDate: 17-Jul-2002; LatestRevisionNote: Re-released for DXP Platform.; Publisher: Altium Limited
footprint PLS-3-3D (Connector; Header; 3 Position)
footprint PXS-3 (Connector; Header; 3 Position)
pins: 1, 2, 3

## PLS-6
designator X?
Header, 6-Pin; LatestRevisionDate: 17-Jul-2002; LatestRevisionNote: Re-released for DXP Platform.; Publisher: Altium Limited
footprint PXS-6 (Connector; Header; 6 Position)
footprint PLS-6-3D (Connector; Header; 4 Position)
pins: 1, 2, 3, 4, 5, 6

## PLS-7
designator X?
Header, 7-Pin; LatestRevisionDate: 17-Jul-2002; LatestRevisionNote: Re-released for DXP Platform.; Publisher: Altium Limited
footprint PXS-7 (Connector; Header; 7 Position)
footprint PLS-7-3D (Connector; Header; 7 Position)
pins: 1, 2, 3, 4, 5, 6, 7

## PLS-9
designator X?
Header, 9-Pin; LatestRevisionDate: 17-Jul-2002; LatestRevisionNote: Re-released for DXP Platform.; Publisher: Altium Limited
footprint PXS-9 (Connector; Header; 9 Position)
footprint PLS-9-3D (Connector; Header; 9 Position)
pins: 1, 2, 3, 4, 5, 6, 7, 8, 9

## PLS-12
designator X?
Header, 12-Pin; LatestRevisionDate: 17-Jul-2002; LatestRevisionNote: Re-released for DXP Platform.; Publisher: Altium Limited
footprint PXS-12 (Connector; Header; 12 Position)
footprint PLS-12-3D (Connector; Header; 12 Position)
pins: 1, 2, 3, 4, 5, 6, 7, 8, 9, 10, 11, 12

## PLS-13
designator X?
Header, 13-Pin; LatestRevisionDate: 17-Jul-2002; LatestRevisionNote: Re-released for DXP Platform.; Publisher: Altium Limited
footprint PXS-13 (Connector; Header; 13 Position)
footprint PLS-13-3D (Connector; Header; 13 Position)
pins: 1, 2, 3, 4, 5, 6, 7, 8, 9, 10, 11, 12, 13

## PowerWire
designator X?, comment dim_wire_2
footprint 340-021-12
pins: 1, 2, 3, 4, 5, 6, 7, 8

## PTQ 0,3/ 2-2,5 THR R32 / 1702610
designator X?
Connector 4Pin 2.5 pitch
footprint PTQ 0,3/ 2-2,5 THR R32 / 1702610
pins: 1, 2

## PTSM 0,5/ 1-2,5-H SMD WH L R24 /1840035
designator J?
RJ45_5520259-4; Part: PTSM 0,5/ 1-2,5-H SMD WH L R24 /1840035
footprint PTSM 0,5/ 1-2,5-H SMD WH L R24 /1840035
pins: 1

## PTSM 0,5/ 2-2,5-H SMD/1702473
designator X?
Connector 2Pin 2.5 pitch
footprint PTSM 0,5/ 2-2,5-H SMD R24
pins: 1, 2

## PTSM 0,5/ 3-HV-2,5-THR R32 / 1778560
designator X?
Connector 4Pin 2.5 pitch
footprint PTSM 0,5/ 3-HV-2,5-THR R32 / 1778560
pins: 1, 2, 3

## PTSM 0,5/ 4-2,5-H SMD WH R24 / 1814650
designator X?
Part: PTSM 0,5/ 4-2,5-H SMD WH R24 / 1814650
footprint PTSM 0,5/ 4-2,5-H SMD WH R24 / 1814650
pins: 1, 2, 3, 4

## PTSM 0,5/ 4-HHI1-2,5-THR R32 / 1810803_1
designator X?, comment PTSM 0,5/ 4-HHI1-2,5-THR R32
Connector 4Pin 2.5 pitch
footprint PTSM 0,5/ 4-HHI1-2,5-THR R32 / 1810803
pins: 1, 2, 3, 4

## PTSM 0,5/ 4-HV-2,5-THR R32 / 1778573
designator X?
Connector 4Pin 2.5 pitch
footprint PTSM 0,5/ 4-HV-2,5-THR R32 / 1778573
pins: 1, 2, 3, 4

## PTSM 0,5/ 8-2,5-H SMD R44  / 1771088
designator X?
Connector 4Pin 2.5 pitch; Part: PTSM 0,5/ 8-2,5-H SMD R44  / 1771088
footprint PTSM 0,5/ 8-2,5-H SMD R44
pins: 1, 2, 3, 4, 5, 6, 7, 8

## PTSPL-6/1-2X2/1704836
designator X?
Connector 1Pin
footprint PTSPL-6/1-2X2/1704836 (1 pin)
pins: 1

## Qualtek 703W-00/53 AS-205
designator X?
AC Power connector
footprint AS-205
pins: 1, 2, 3

## RJ45
designator J?
RJ45 Jack
footprint RJ45
pins: 1, 2, 3, 4, 5, 6, 7, 8, 9 A, 10 K, 11 K, 12 A, MH1, MH2, MH3, MH4

## RJ45-B-1x1
designator J?, comment RJ45_B-1x1
RJ45; Part: RJ45-B-1*1; Link: https://jlcpcb.com/partdetail/149710-RJ45_B_11/C138392; JLCPCBPart: C138392
footprint RJ45-TH_B-1-1
pins: 1, 2, 3, 4, 5, 6, 7, 8, A1 A, A2 A, K1 K, K2 K, SHLD1 16, SHLD2 15

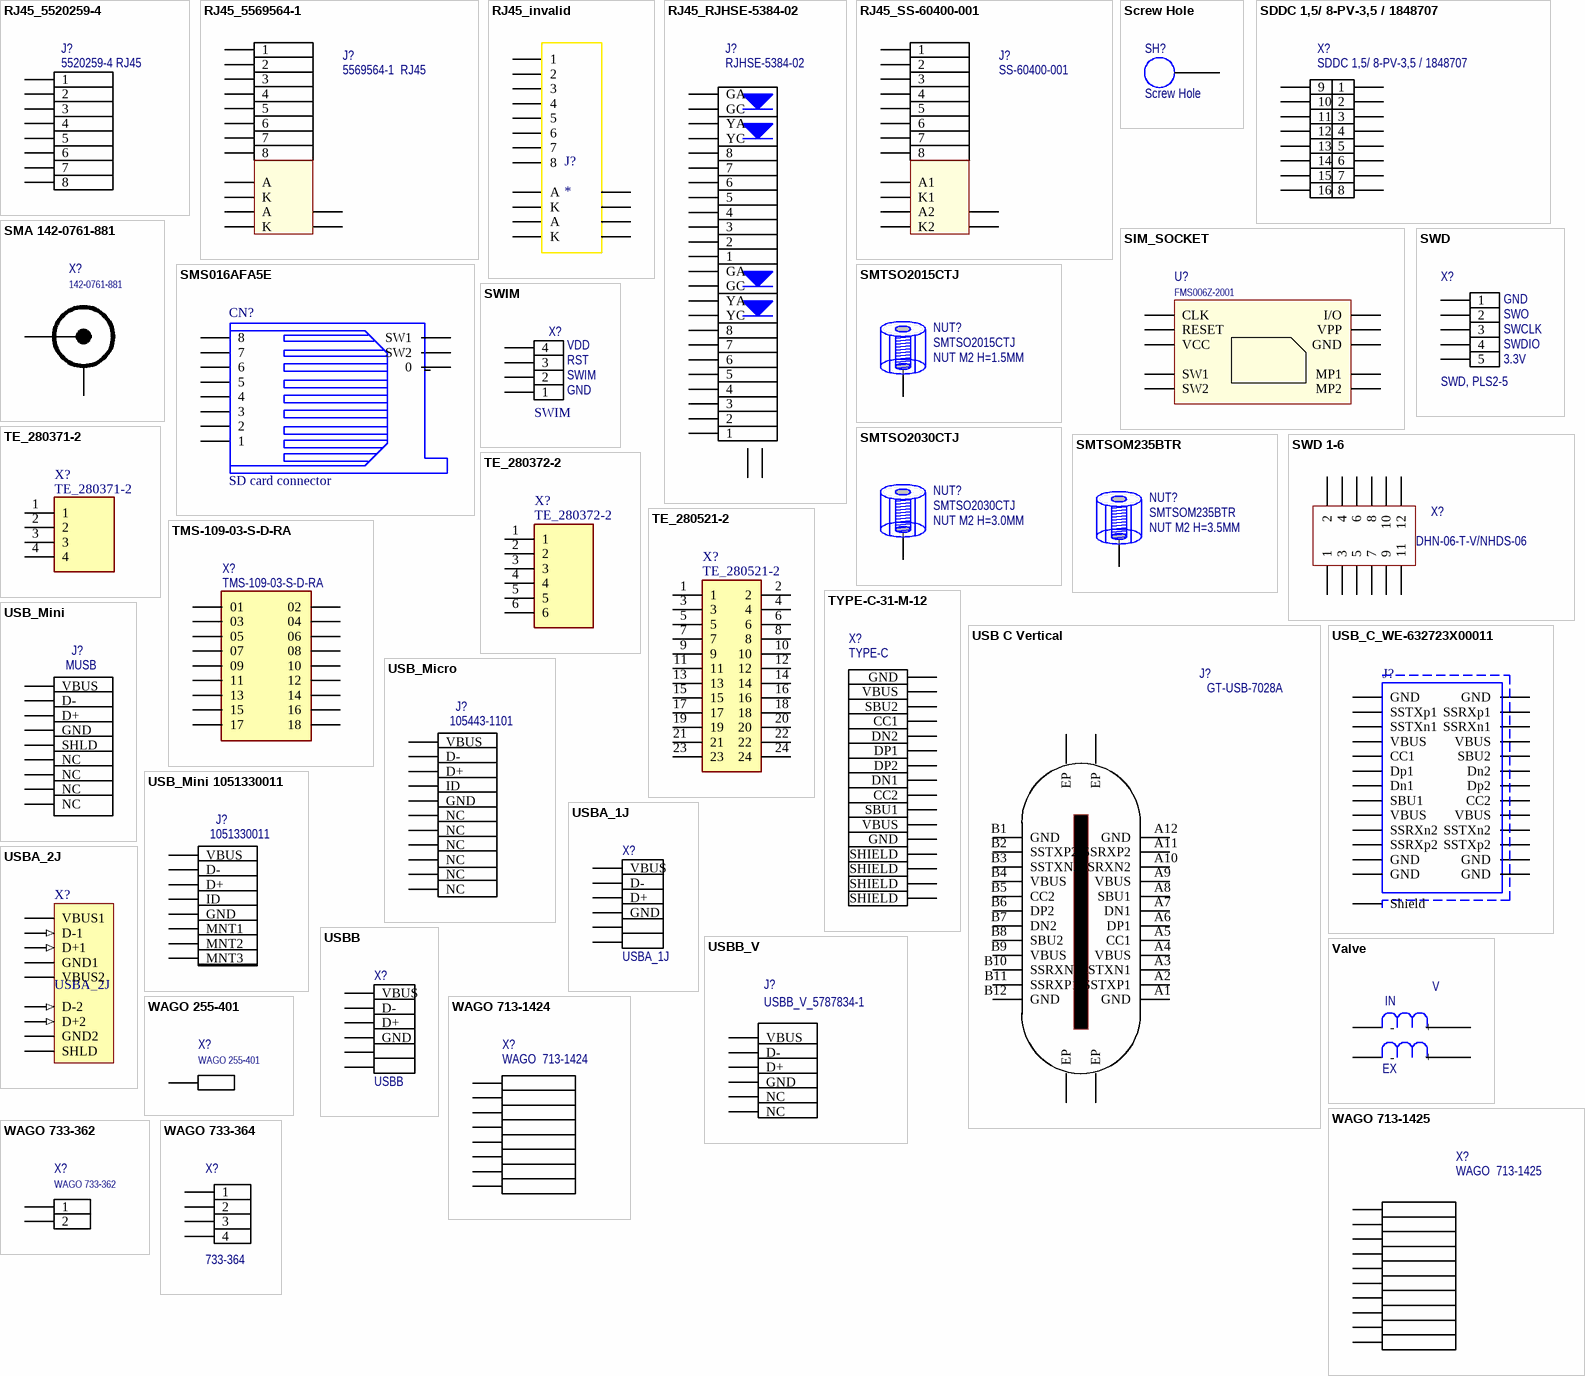
[diagram p4: symbols RJ45_5520259-4 to WAGO 733-364]

## RJ45_5520259-4
designator J?, comment 5520259-4 RJ45
RJ45_5520259-4
footprint 5520259-4
pins: 1, 2, 3, 4, 5, 6, 7, 8

## RJ45_5569564-1
designator J?, comment 5569564-1  RJ45
5569564-1 Modular Jacks
footprint RJ45-5569564
pins: 1, 2, 3, 4, 5, 6, 7, 8, 9 A, 10 K, 11 A, 12 K, 15, 16

## RJ45_invalid
designator J?
footprint RJ45_invalid
pins: 1, 2, 3, 4, 5, 6, 7, 8, 9 A, 10 K, 11 K, 12 A, MH1, MH2, MH3, MH4

## RJ45_RJHSE-5384-02
designator J?, comment RJHSE-5384-02
RJHSE-5384-02 Modular Jacks
footprint RJ45_RJHSE-5384-02
pins: 1, 2, 3, 4, 5, 6, 7, 8, 9 YC, 10 YA, 11 GC, 12 GA, 13 1, 14 2, 15 3, 16 4, 17 5, 18 6, 19 7, 20 8, 21 YC, 22 YA, 23 GC, 24 GA, 25 MNT 1, 26 MNT 2

## RJ45_SS-60400-001
designator J?, comment SS-60400-001
SS-60400-001 Modular Jacks
footprint RJ45_SS-60400-001
pins: 1, 2, 3, 4, 5, 6, 7, 8, A1, A2, K1, K2, SHLD1, SHLD2

## Screw Hole
designator SH?  (no BOM)
Pin Count: 1; Internal_PN: -
footprint Screw Hole 2.1mm/4.2mm
pins: 1

## SDDC 1,5/ 8-PV-3,5 / 1848707
designator X?
Part: SDDC 1,5/ 8-PV-3,5 / 1848707
footprint SDDC 1,5/ 8-PV-3,5 / 1848707 (Direct PCB connector)
pins: 1, 2, 3, 4, 5, 6, 7, 8, 9, 10, 11, 12, 13, 14, 15, 16

## SIM_SOCKET
designator U?, comment FMS006Z-2001
footprint SIMcard
pins: C1 VCC "+5 VDC power supply input (optional use by the card)", C2 RESET "Reset signal, used to reset the card's communications. Either used itself (reset signal supplied from the interface device) or in combination with an interal reset control circuit (optional use by the card). If internal reset is implemented, the voltage supply on Vcc is mandatory", C3 CLK "Provides the card with a clock signal, from which data communications timing is derived", C5 GND "Ground (reference voltage)", C6 VPP "Programing voltage input (optional).", C7 I/O "Input or Output for serial data (half-duplex) to the integrated circuit inside the card.", MP1, MP2, SW1, SW2

## SMA 142-0761-881
designator X?, comment 142-0761-881
footprint SMA_HF (142-0761-881)
pins: 1, 2, 3, 4, 5

## SMS016AFA5E
designator CN?, comment SD card connector
footprint MicroSD
pins: 0, 1, 2, 3, 4, 5, 6, 7, 8, 9 SW2, 10 SW1

## SMTSO2015CTJ
designator NUT?  Case/Package: NUT M2 H=1.5MM
NUT M2 H=1.5MM, Connector Standoff; Manufacturer: Sinhoo; Verified by ME: NO; Part: SMTSO2015CTJ; Alternative Part: *; Pins: 1
footprint SMTSO2015CTJ
pins: 1 M3

## SMTSO2030CTJ
designator NUT?  Case/Package: NUT M2 H=3.0MM
NUT M2 H=3.0MM, Connector Standoff; Manufacturer: Sinhoo; Verified by ME: NO; Part: SMTSO2030CTJ; Alternative Part: *; Pins: 1
footprint SMTSO2030CTJ
pins: 1 M3

## SMTSOM235BTR
designator NUT?  Case/Package: NUT M2 H=3.5MM
NUT M2 H=3.5MM, Connector Standoff; Manufacturer: Sinhoo; Verified by ME: NO; Part: SMTSOM235BTR; Alternative Part: *; Pins: 1
footprint SMTSOM235BTR
pins: 1 M3

## SWD
designator X?, comment SWD, PLS2-5
Header, 5-Pin; LatestRevisionDate: 17-Jul-2002; LatestRevisionNote: Re-released for DXP Platform.; Publisher: Altium Limited
footprint PLS-5-2 (Connector; Header; 1x5 Position)
footprint PLS-5-3D (Connector; Header; 5 Position)
pins: 1, 2, 3, 4, 5
text: GND; SWO; SWCLK; SWDIO; 3.3V

## SWD 1-6
designator X?, comment DHN-06-T-V/NHDS-06
6-way SMT DIP switch 1.27 Pitch
footprint SWD 4-5
footprint SWD 1-6 1.27pitch
pins: 1, 2, 3, 4, 5, 6, 7, 8, 9, 10, 11, 12

## SWIM
designator X?
Header, 4-Pin; LatestRevisionDate: 17-Jul-2002; LatestRevisionNote: Re-released for DXP Platform.; Publisher: Altium Limited
footprint SWIM_4PIN (Connector; Header; 1x4 Position)
pins: 1, 2, 3, 4
text: VDD; RST; GND

## TE_280371-2
designator X?
Conn Shrouded Header HDR 4 POS 2.54mm Solder ST Thru-Hole Automotive Carton; Part: 280371-2
footprint TE_280371-2
pins: 1, 2, 3, 4

## TE_280372-2
designator X?
6P AMPMODU II SHRD HDR, ST, 0.38AU; Part: 280372-2
footprint TE_280372-2 (Straight PCB Header, 6-Way 1 Row, 2.54 mm Pitch, Solder, AMPMODU Mod II Series)
pins: 1, 2, 3, 4, 5, 6

## TE_280521-2
designator X?
Conn Wire to Board HDR 24 POS 2.54mm Solder ST Thru-Hole Box; Part: 280521-2
footprint TE_280521-2
pins: 1, 2, 3, 4, 5, 6, 7, 8, 9, 10, 11, 12, 13, 14, 15, 16, 17, 18, 19, 20, 21, 22, 23, 24

## TMS-109-03-S-D-RA
designator X?
Package: None; Price: None; Value: *; MP: TMS-109-03-S-D-RA; Availability: Unavailable
footprint SAMTEC_TMS-109-03-S-D-RA
pins: 01, 02, 03, 04, 05, 06, 07, 08, 09, 10, 11, 12, 13, 14, 15, 16, 17, 18

## TYPE-C-31-M-12
designator X?, comment TYPE-C
USB Connectors 24 Receptacle 1 8.94*7.3mm RoHS; Part: TYPE-C-31-M-12
footprint HRO_TYPE-C-31-M-12
pins: A1B12 GND, A4B9 VBUS, A5 CC1, A6 DP1, A7 DN1, A8 SBU1, B1A12 GND, B4A9 VBUS, B5 CC2, B6 DP2, B7 DN2, B8 SBU2, S1 SHIELD, S2 SHIELD, S3 SHIELD, S4 SHIELD

## USB C Vertical
designator J?, comment GT-USB-7028A
USB C Vertical; Part: GT-USB-7028A; JLCPCBPart: C3001279
footprint GT-USB-7028A (USB C Vertical)
pins: 2 EP, 3 EP, 4 EP, 5 EP, A1 GND, A2 SSTXP1, A3 SSTXN1, A4 VBUS, A5 CC1, A6 DP1, A7 DN1, A8 SBU1, A9 VBUS, A10 SSRXN2, A11 SSRXP2, A12 GND, B1 GND, B2 SSTXP2, B3 SSTXN2, B4 VBUS, B5 CC2, B6 DP2, B7 DN2, B8 SBU2, B9 VBUS, B10 SSRXN1, B11 SSRXP1, B12 GND

## USB_C_WE-632723X00011
designator J?
footprint 632723100011 (USB 3.1 Type C Receptacle Horizontal THR)
pins: A1 GND, A2 SSTXp1, A3 SSTXn1, A4 VBUS, A5 CC1, A6 Dp1, A7 Dn1, A8 SBU1, A9 VBUS, A10 SSRXn2, A11 SSRXp2, A12 GND, B1 GND, B2 SSTXp2, B3 SSTXn2, B4 VBUS, B5 CC2, B6 Dp2, B7 Dn2, B8 SBU2, B9 VBUS, B10 SSRXn1, B11 SSRXp1, B12 GND, G1 GND, G2 GND, Shell Shield